# EAGLE library part DG942X (library m_misc)
Precision Low-Voltage, Low-Glitch CMOS Analog Switches FEATURES 2.7- thru 12 V single supply or ± 2.7- thru ± 6-dual supply Low on-resistance - RDS(on): 2.0 Ω at 12 V Fast switching - tON: 28 ns tOFF: 22 ns TTL and low voltage logic Low leakage: 10 pA (typ.) > 2000 V ESD protection DESCRIPTION Using BiCMOS wafer fabrication technology allows the DG9421, DG9422 to operate on single and dual supplies. Designed for optimal performance at single 5 V and dual ± 5 V, the DG9421, DG9422 combine low and flat on-resistance (3 Ω), fast speed (tON = 38 ns) and is well suited for applications where signal switching accuracy, low noise and low distortion is critical. The DG9421 and DG9422 respond to opposite control logic as shown in the Truth Table.
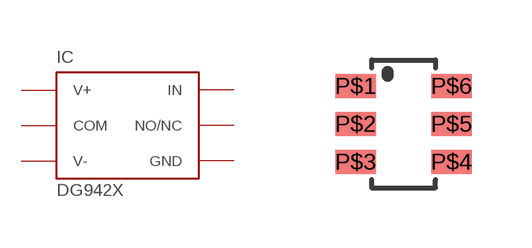
[diagram p24: symbol with the pads of TSOP-6; footprint TSOP-6]

Designator prefix IC

## DG942X  [TSOP-6]
P$1  V+
P$2  COM
P$3  V-
P$4  GND
P$5  NO/NC
P$6  IN

## Footprint TSOP-6 (pad centres in mm)
smd 1.016 x 0.6: P$1 -1.2,0.95; P$2 -1.2,0; P$3 -1.2,-0.95; P$4 1.2,-0.95; P$5 1.2,0; P$6 1.2,0.95